# EAGLE library part AS-ITM-00190 (library tinycircuits)
IC EEPROM 1MBIT 1MHZ 8SOIC
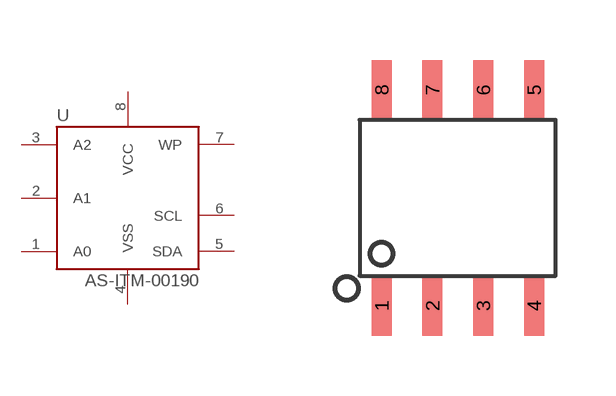
[diagram p81: symbol with the pads of 8-SOIC-N; footprint 8-SOIC-N]

Designator prefix U

## AS-ITM-00190 (PARTNO: AS-ITM-00190; VALUE: 24FC1025T-I/SN)  [8-SOIC-N]
1  A0
2  A1
3  A2
4  VSS
5  SDA
6  SCL
7  WP
8  VCC

## Footprint 8-SOIC-N (pad centres in mm)
smd 0.5 x 1.5: 1 -1.905,-2.7; 2 -0.635,-2.7; 3 0.635,-2.7; 4 1.905,-2.7; 5 1.905,2.7; 6 0.635,2.7; 7 -0.635,2.7; 8 -1.905,2.7